# Altium footprint library Footprints.PcbLib: 12 footprints
Each footprint in its own frame and in the unit in brackets; x right, y up, seen from the top. Pads: shape width x height; smd on the part's side, far side on the other; paste and mask are expansions set on the pad; w line width, h text height; cw(c..) or ccw(c..) is an arc to the next point about the centre after c.
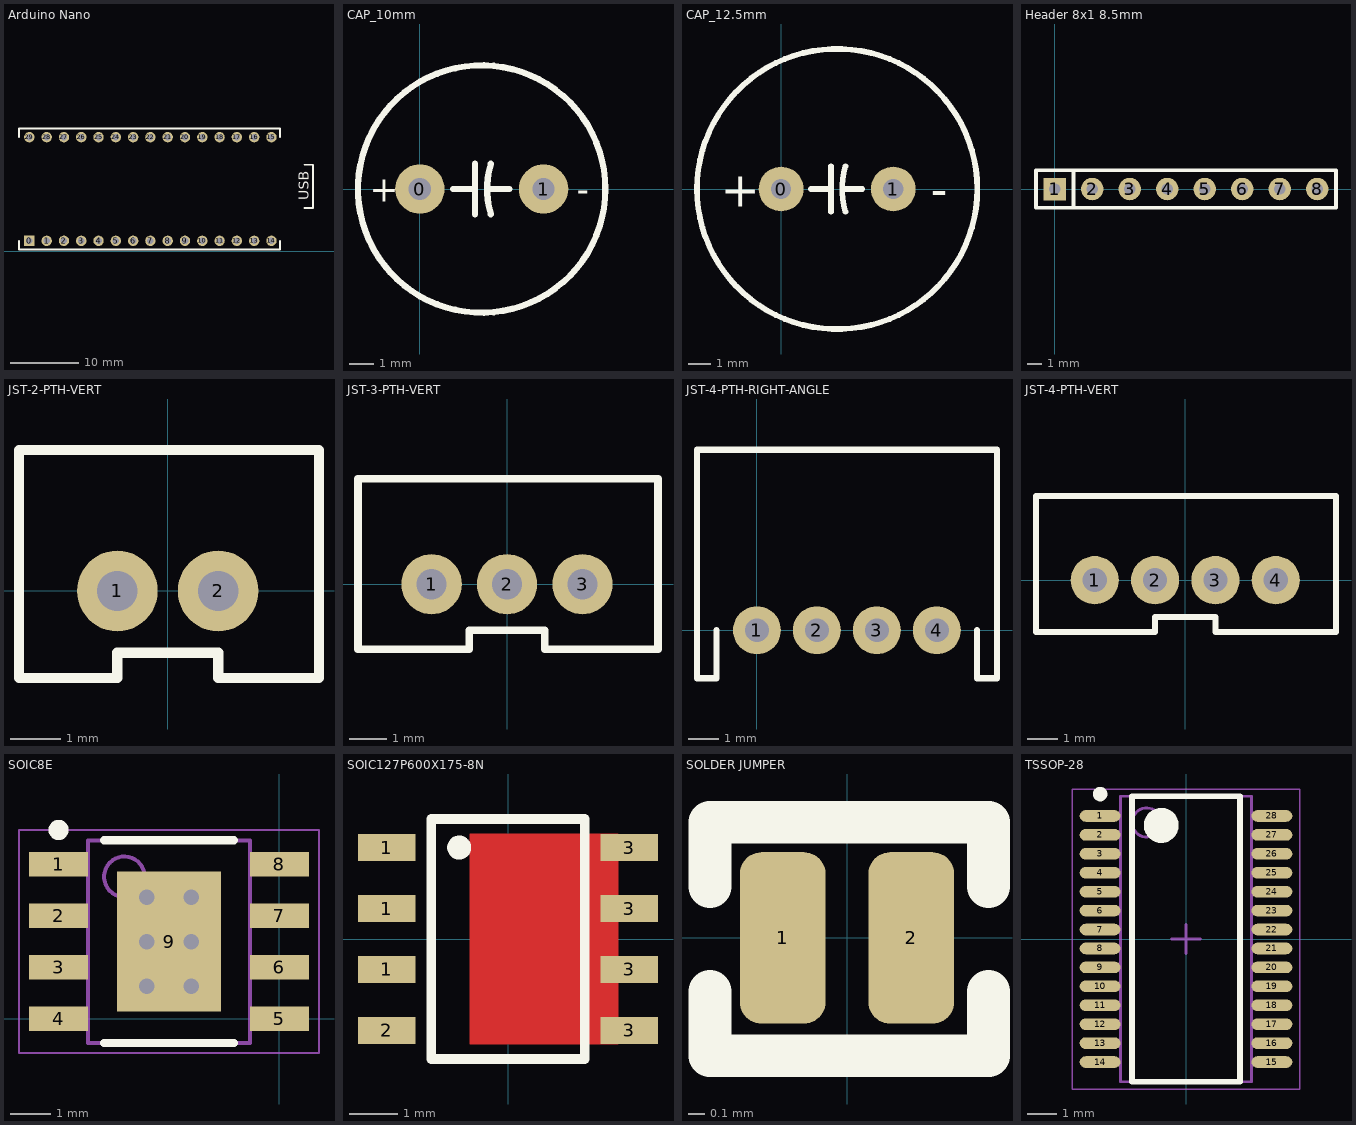
[diagram p0: the footprints below, top view; thin cyan lines are the x and y axes]

## Arduino Nano [mil]
height 1700
pads (30):
  rect 60x60 hole 38: 0(160,60)
  round 60 hole 38: 1(260,60) 2(360,60) 3(460,60) 4(560,60) 5(660,60) 6(760,60) 7(860,60) 8(960,60) 9(1060,60) 10(1160,60) 11(1260,60) 12(1360,60) 13(1460,60) 14(1560,60) 15(1560,660) 16(1460,660) 17(1360,660) 18(1260,660) 19(1160,660) 20(1060,660) 21(960,660) 22(860,660) 23(760,660) 24(660,660) 25(560,660) 26(460,660) 27(360,660) 28(260,660) 29(160,660)
Top Overlay:
  lines w10: 100,60 100,10 1610,10 1610,60 ; 100,660 100,710 1610,710 1610,660 ; 1750,250 1800,250 1800,500 1750,500
  text "USB" at 1775,295 h60
3D body "arduino nano.STEP": height 497.64, standoff -234.65, extent 9.61,5.68 1781.27,714.34

## CAP_10mm [mm]
pads (2):
  round 2 hole 0.9: 0(0,0) 1(5,0)
Top Overlay:
  circle w0.254: c2.5,0 r5
  lines w0.254: 1.336,0 2.225,0 ; 2.225,-1.016 2.225,1.016 ; 2.733,0 3.622,0 ; 2.87,-1.016 cw(c6.172,0) 2.87,1.016
  text "+" at -2.032,-0.508 h1.02
  text "-" at 6.35,-0.508 h1.02
3D body: height 10, standoff 0, extent -2.46,-5 7.54,5

## CAP_12.5mm [mm]
pads (2):
  round 2 hole 0.9: 0(0,0) 1(5,0)
Top Overlay:
  circle w0.254: c2.5,0 r6.25
  lines w0.254: 1.336,0 2.225,0 ; 2.225,-1.016 2.225,1.016 ; 2.733,0 3.622,0 ; 2.87,-1.016 cw(c6.172,0) 2.87,1.016
  text "-" at 6.68,-0.762 h1.52
  text "+" at -2.7,-0.8 h1.52
3D body "User Library-CAPPR500-1250x2000.STEP": height 20, standoff -7.5, extent -3.75,-6.25 8.75,6.25

## Header 8x1 8.5mm [mil] "Stackable 8 pin header"
pads (8):
  rect 60x60 hole 30: 1(0,0)
  round 60 hole 30: 2(100,0) 3(200,0) 4(300,0) 5(400,0) 6(500,0) 7(600,0) 8(700,0)
Top Overlay:
  lines w10: 50,-50 50,50 ; -50,-50 -50,50 750,50 750,-50 -50,-50
3D body "Pin Header 1x8 TH Pitch 2.54mm.stp": height 125.98, standoff -373.85, extent -50,-50 750,50

## JST-2-PTH-VERT [mil]
pads (2):
  round 63 hole 31.5: 1(-39.37,0) 2(39.37,0)
Top Overlay:
  lines w7.99: -116.14,-67.84 -39.37,-67.84
  lines w8: -116.14,-67.84 -116.14,110 118.11,110 118.11,-67.84 39.37,-67.84 39.37,-48.16 -39.37,-48.16 -39.37,-67.84
3D body "B2B-PH-K-S.STEP": height 236.22, standoff -133.86, extent -113.86,-63.86 118.43,113.31

## JST-3-PTH-VERT [mil]
pads (3):
  round 63 hole 31.5: 1(-78.74,0) 2(0,0) 3(78.74,0)
Top Overlay:
  lines w7.99: -155.51,-67.84 -39.37,-67.84
  lines w8: -155.51,-67.84 -155.51,110 157.48,110 157.48,-67.84 39.37,-67.84 39.37,-48.16 -39.37,-48.16 -39.37,-67.84
3D body "B3B-PH-K-S.STEP": height 236.22, standoff -133.86, extent -154.52,-66.92 156.5,110.24

## JST-4-PTH-RIGHT-ANGLE [mil]
pads (4):
  round 63 hole 31.5: 1(0,0) 2(78.74,0) 3(157.48,0) 4(236.22,0)
Top Overlay:
  lines w8: -78.74,237 -78.74,-62.99 -53.15,-62.99 -53.15,0 ; -78.48,237 315.22,237 315.22,-62.99 289.22,-62.99 289.22,0
3D body "S4B-PH-K-S.STEP": height 192.76, standoff -130.08, extent -74.88,-60 314.88,239.21

## JST-4-PTH-VERT [mil]
pads (4):
  round 63 hole 31.5: 1(-118.11,0) 2(-39.37,0) 3(39.37,0) 4(118.11,0)
Top Overlay:
  lines w7.99: -194.88,-67.84 -39.37,-67.84
  lines w8: -194.88,-67.84 -194.88,110 196.85,110 196.85,-67.84 39.37,-67.84 39.37,-48.16 -39.37,-48.16 -39.37,-67.84
3D body "B4B-PH-K-S.STEP": height 236.22, standoff -133.86, extent -194.88,-70 194.88,107.16

## SOIC8E [mm] "SOIC, 8-Leads, Body 4.90x3.90mm, Pitch 1.27mm, Thermal Pad 3.45x2.56mm, IPC Medium Density"
height 1.5
pads (9):
  rect 1.45x0.6 smd: 1(-5.45,3.81) 2(-5.45,2.54) 3(-5.45,1.27) 4(-5.45,0) 5(0,0) 6(0,1.27) 7(0,2.54) 8(0,3.81)
  rect 2.56x3.45 smd: 9(-2.725,1.905)
via -3.275,0.805 diameter 0.762 hole 0.381
via -2.175,1.905 diameter 0.762 hole 0.381
via -3.275,1.905 diameter 0.762 hole 0.381
via -2.175,3.005 diameter 0.762 hole 0.381
via -3.275,3.005 diameter 0.762 hole 0.381
via -2.175,0.805 diameter 0.762 hole 0.381
Top Overlay:
  circle w0.25: c-5.45,4.66 r0.125
  lines w0.2: -4.325,-0.595 -1.125,-0.595 ; -4.325,4.405 -1.125,4.405
Mechanical 13:
  circle w0.1: c-3.825,3.505 r0.5
  lines w0.1: -4.725,-0.595 -0.725,-0.595 -0.725,4.405 -4.725,4.405 -4.725,-0.595
Mechanical 15:
  lines w0.05: -6.425,-0.845 0.975,-0.845 0.975,4.655 -6.425,4.655 -6.425,-0.845
  lines w0.1: -3.225,1.905 -2.225,1.905 ; -2.725,1.405 -2.725,2.405
3D body: height 1.5, standoff 0.1, extent -4.725,-0.595 -0.725,4.405

## SOIC127P600X175-8N [mm] "SOIC, 8-Leads, Body 4.90x3.90mm, Pitch 1.27mm, IPC Medium Density"
height 1.75
pads (8):
  rect 1.194x0.56 smd: 1(-2.528,-0.635) 1(-2.528,0.635) 1(-2.528,1.905) 2(-2.528,-1.905) 3(2.527,-1.905) 3(2.527,-0.635) 3(2.527,0.635) 3(2.527,1.905)
Top Layer:
  rectangle: -0.8,-2.2 2.3,2.2
Top Overlay:
  circle w0.25: c-1.016,1.905 r0.125
  lines w0.2: -1.6,-2.5 1.6,-2.5 1.6,2.5 -1.6,2.5 -1.6,-2.5
3D body: height 1.75, standoff 0.1, extent -2.025,-2.5 1.975,2.5

## SOLDER JUMPER [mil]
pads (2):
  rrect50% 20x40 smd: 1(-15,0) 2(15,0)
Top Overlay:
  lines w10: -32,-12.5 -32,-27.5 33,-27.5 33,-12.5 ; -32,12 -32,27 33,27 33,12

## TSSOP-28 [mm] "TSOP, 28-Leads, Body 9.70x4.40mm, Pitch 0.65mm, IPC Medium Density"
height 0.95
pads (28):
  oval 1.4x0.4 smd: 1(-2.95,4.225) 2(-2.95,3.575) 3(-2.95,2.925) 4(-2.95,2.275) 5(-2.95,1.625) 6(-2.95,0.975) 7(-2.95,0.325) 8(-2.95,-0.325) 9(-2.95,-0.975) 10(-2.95,-1.625) 11(-2.95,-2.275) 12(-2.95,-2.925) 13(-2.95,-3.575) 14(-2.95,-4.225) 15(2.95,-4.225) 16(2.95,-3.575) 17(2.95,-2.925) 18(2.95,-2.275) 19(2.95,-1.625) 20(2.95,-0.975) 21(2.95,-0.325) 22(2.95,0.325) 23(2.95,0.975) 24(2.95,1.625) 25(2.95,2.275) 26(2.95,2.925) 27(2.95,3.575) 28(2.95,4.225)
Top Overlay:
  circle w0.25: c-2.95,4.975 r0.125
  circle w0.6: c-0.85,3.9 r0.3
  lines w0.2: -1.85,-4.9 -1.85,4.9 1.85,4.9 1.85,-4.9 -1.85,-4.9
Mechanical 13:
  circle w0.1: c-1.35,4 r0.5
  lines w0.1: -2.25,-4.9 -2.25,4.9 2.25,4.9 2.25,-4.9 -2.25,-4.9
Mechanical 15:
  lines w0.05: -3.9,-5.15 -3.9,5.15 3.9,5.15 3.9,-5.15 -3.9,-5.15
  lines w0.1: -0.5,0 0.5,0 ; 0,-0.5 0,0.5
3D body: height 0.95, standoff 0.05, extent -2.25,-4.9 2.25,4.9